# EAGLE library part FST3257MTC (library fairchild_FST3257)
4x2:1 MUX by Fairchild Semiconductor
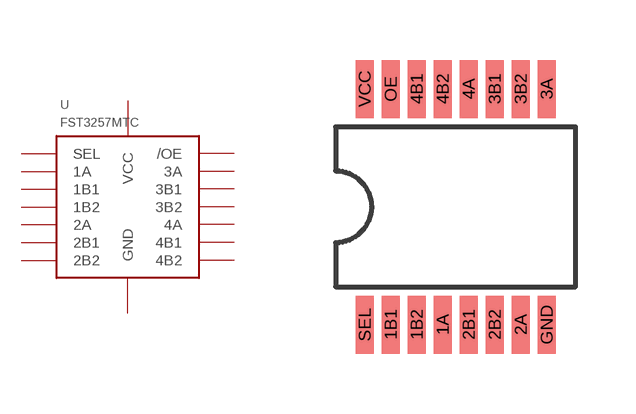
[diagram p0: symbol with the pads of FST3257MTC; footprint FST3257MTC]

Designator prefix -

## FST3257MTC  [FST3257MTC]
1A  1A
1B1  1B1
1B2  1B2
2A  2A
2B1  2B1
2B2  2B2
3A  3A
3B1  3B1
3B2  3B2
4A  4A
4B1  4B1
4B2  4B2
GND  GND
OE  /OE
SEL  SEL
VCC  VCC

## Footprint FST3257MTC (pad centres in mm)
Footprint for TSSOP-16 FST3257MTC Manufactured by Fairchild Semiconductor, drafted by Parker Boyce
smd 0.45 x 1.45: 1A -0.325,-2.95; 1B1 -1.625,-2.95; 1B2 -0.975,-2.95; 2A 1.625,-2.95; 2B1 0.325,-2.95; 2B2 0.975,-2.95; 3A 2.275,2.95; 3B1 0.975,2.95; 3B2 1.625,2.95; 4A 0.325,2.95; 4B1 -0.975,2.95; 4B2 -0.325,2.95; GND 2.275,-2.95; OE -1.625,2.95; SEL -2.275,-2.95; VCC -2.275,2.95